# Altium footprint library DIP Led.PcbLib: 26 footprints (part 2 of 2)
Each footprint in its own frame and in the unit in brackets; x right, y up, seen from the top. Pads: shape width x height; smd on the part's side, far side on the other; paste and mask are expansions set on the pad; w line width, h text height; cw(c..) or ccw(c..) is an arc to the next point about the centre after c.
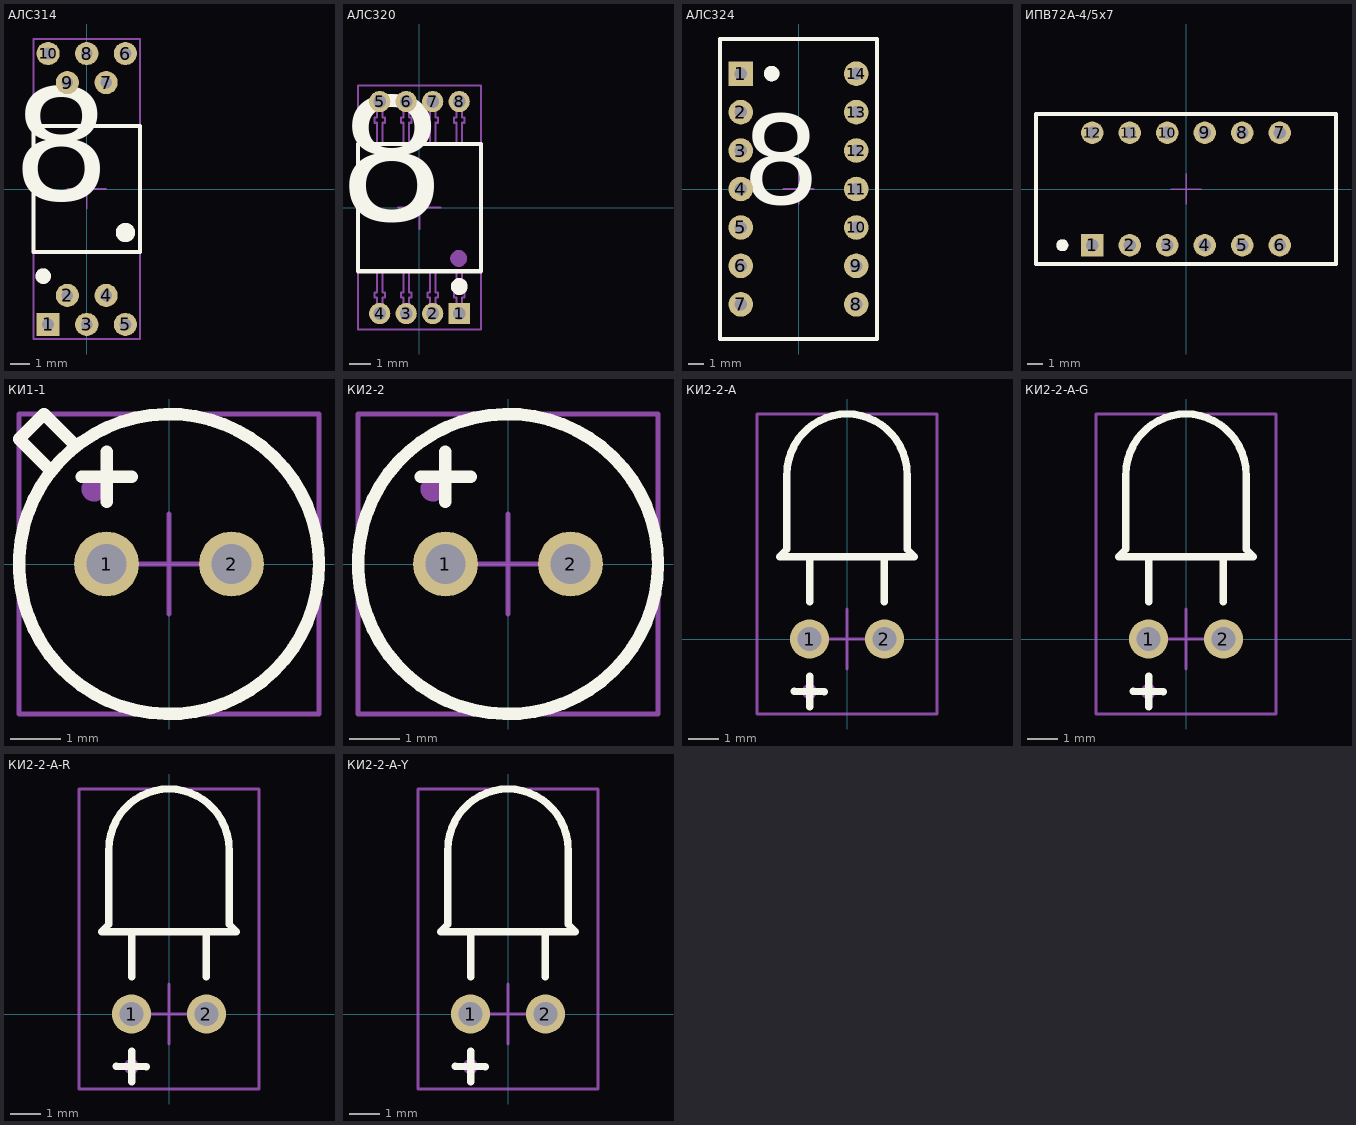
[diagram p1: the footprints below, top view; thin cyan lines are the x and y axes]

## АЛС314 [mm]
height 2
pads (10):
  rect 1.2x1.2 hole 0.6: 1(-2,-7)
  round 1.2 hole 0.6: 2(-1,-5.5) 3(0,-7) 4(1,-5.5) 5(2,-7) 6(2,7) 7(1,5.5) 8(0,7) 9(-1,5.5) 10(-2,7)
Top Overlay:
  circle w0.5: c2,-2.25 r0.25
  circle w0.4: c-2.25,-4.5 r0.2
  lines w0.2: -2.75,-3.25 -2.75,3.25 2.75,3.25 2.75,-3.25 -2.75,-3.25
  text "8" at 1.25,-2.5 h10
Mechanical 13:
  circle w0.4: c-2.25,-4.5 r0.2
  lines w0.1: -2.75,-3.25 2.75,-3.25 2.75,3.25 -2.75,3.25 -2.75,-3.25
Mechanical 15:
  lines w0.1: -1,0 1,0 ; 0.001,-1 0.001,1 ; -2.75,-7.75 2.75,-7.75 2.75,7.75 -2.75,7.75 -2.75,-7.75
3D body: height 2, standoff 0, extent -2.75,-3.25 2.75,3.25

## АЛС320 [mm]
height 2.8
pads (8):
  rect 1x1 hole 0.6: 1(1.875,-5)
  round 1 hole 0.6: 2(0.625,-5) 3(-0.625,-5) 4(-1.875,-5) 5(-1.875,5) 6(-0.625,5) 7(0.625,5) 8(1.875,5)
Top Overlay:
  circle w0.4: c1.875,-3.725 r0.2
  lines w0.2: -2.9,-3 2.9,-3 2.9,3 -2.9,3 -2.9,-3
  text "8" at 1.25,-2.5 h10
Mechanical 13:
  circle w0.4: c1.85,-2.4 r0.2
  lines w0.1: -2,-3 -2,-4 -2.125,-4 -2.125,-4.25 -2,-4.25 -2,-5 -1.75,-5 -1.75,-4.25 -1.625,-4.25 -1.625,-4 -1.75,-4 -1.75,-3 ; -2,3 -2,4 -2.125,4 -2.125,4.25 -2,4.25 -2,5 -1.75,5 -1.75,4.25 -1.625,4.25 -1.625,4 -1.75,4 -1.75,3 ; -0.75,-3 -0.75,-4 -0.875,-4 -0.875,-4.25 -0.75,-4.25 -0.75,-5 -0.5,-5 -0.5,-4.25 -0.375,-4.25 -0.375,-4 -0.5,-4 -0.5,-3 ; -0.75,3 -0.75,4 -0.875,4 -0.875,4.25 -0.75,4.25 -0.75,5 -0.5,5 -0.5,4.25 -0.375,4.25 -0.375,4 -0.5,4 -0.5,3 ; 0.5,-3 0.5,-4 0.375,-4 0.375,-4.25 0.5,-4.25 0.5,-5 0.75,-5 0.75,-4.25 0.875,-4.25 0.875,-4 0.75,-4 0.75,-3 ; 0.5,3 0.5,4 0.375,4 0.375,4.25 0.5,4.25 0.5,5 0.75,5 0.75,4.25 0.875,4.25 0.875,4 0.75,4 0.75,3 ; 1.75,-3 1.75,-4 1.625,-4 1.625,-4.25 1.75,-4.25 1.75,-5 2,-5 2,-4.25 2.125,-4.25 2.125,-4 2,-4 2,-3 ; 1.75,3 1.75,4 1.625,4 1.625,4.25 1.75,4.25 1.75,5 2,5 2,4.25 2.125,4.25 2.125,4 2,4 2,3 ; -2.9,-3 -2.9,3 2.9,3 2.9,-3 -2.9,-3
  text "Check!" at -4,-0.5 h1.52
Mechanical 15:
  lines w0.1: -1,0 1,0 ; 0.001,-1 0.001,1 ; -2.9,-5.75 -2.9,5.75 2.9,5.75 2.9,-5.75 -2.9,-5.75
3D body: height 2.8, standoff 0, extent -2.9,-3 2.9,3

## АЛС324 [mm]
height 8
pads (14):
  rect 1.6x1.6 hole 0.8: 1(-3.75,7.5)
  round 1.6 hole 0.8: 2(-3.75,5) 3(-3.75,2.5) 4(-3.75,0) 5(-3.75,-2.5) 6(-3.75,-5) 7(-3.75,-7.5) 8(3.75,-7.5) 9(3.75,-5) 10(3.75,-2.5) 11(3.75,0) 12(3.75,2.5) 13(3.75,5) 14(3.75,7.5)
Top Overlay:
  circle w0.5: c-1.75,7.5 r0.25
  lines w0.25: -5.1,-9.75 -5.1,9.75 5.1,9.75 5.1,-9.75 -5.1,-9.75
  text "8" at 1.4,-2.9 h10
Mechanical 13:
  circle w0.5: c-1.75,7.5 r0.25
  lines w0.1: -5.1,-9.75 -5.1,9.75 5.1,9.75 5.1,-9.75 -5.1,-9.75
Mechanical 15:
  lines w0.1: -1,-0.001 1,-0.001 ; 0,-1 0,1 ; -5.1,-9.75 -5.1,9.75 5.1,9.75 5.1,-9.75 -5.1,-9.75
3D body "User Library-King Bright SA04-11.step": height 6, standoff -3.08, extent -4.9,-9.375 4.9,9.375

## ИПВ72А-4/5х7 [mm] "Body 20mm x 10mm, HP HDSP-2010"
height 7
pads (12):
  rect 1.5x1.5 hole 0.8: 1(-6.25,-3.75)
  round 1.5 hole 0.8: 2(-3.75,-3.75) 3(-1.25,-3.75) 4(1.25,-3.75) 5(3.75,-3.75) 6(6.25,-3.75) 7(6.25,3.75) 8(3.75,3.75) 9(1.25,3.75) 10(-1.25,3.75) 11(-3.75,3.75) 12(-6.25,3.75)
Top Overlay:
  circle w0.4: c-8.25,-3.75 r0.2
  lines w0.25: -10,-5 10,-5 10,5 -10,5 -10,-5
Mechanical 13:
  circle w0.4: c-8.25,-3.75 r0.2
  lines w0.1: -10,-5 -10,5 10,5 10,-5 -10,-5
Mechanical 15:
  lines w0.1: -1,0 1,0 ; 0.001,-1 0.001,1 ; -10,-5 10,-5 10,5 -10,5 -10,-5

## КИ1-1 [mm] "Корпус КИ1-1 по ГОСТ 24354-80 (TO-18)"
pads (2):
  round 1.3 hole 0.8: 1(-1.25,0) 2(1.25,0)
Top Overlay:
  circle w0.25: c0,0 r3
  lines w0.25: -2.4,1.9 -3,2.5 -2.5,3 -1.9,2.4 ; -1.75,1.75 -0.75,1.75 ; -1.25,1.25 -1.25,2.25
Mechanical 13:
  circle w0.1: c0,0 r3
  circle w0.25: c-1.5,1.5 r0.125
Mechanical 15:
  lines w0.1: -1,0 1,0 ; 0,-1 0,1 ; -3,-3 -3,3 3,3 3,-3 -3,-3
3D body "User Library-Hamamatsu S1336 TO-18.step": height 7.6, standoff -1, extent -2.7,-2.7 2.7,2.7

## КИ2-2 [mm]
pads (2):
  round 1.3 hole 0.8: 1(-1.25,0) 2(1.25,0)
Top Overlay:
  circle w0.25: c0,0 r3
  lines w0.25: -1.75,1.75 -0.75,1.75 ; -1.25,1.25 -1.25,2.25
Mechanical 13:
  circle w0.1: c0,0 r3
  circle w0.25: c-1.5,1.5 r0.125
Mechanical 15:
  lines w0.1: -1,0 1,0 ; 0,-1 0,1 ; -3,-3 3,-3 3,3 -3,3 -3,-3
3D body "User Library-Led.step": height 11, standoff -1, extent -3.1,-3 2.9,3

## КИ2-2-A [mm]
pads (2):
  round 1.3 hole 0.8: 1(-1.25,0) 2(1.25,0)
Top Overlay:
  lines w0.25: -1.75,-1.75 -0.75,-1.75 ; -1.25,-2.25 -1.25,-1.25 ; -1.25,1.25 -1.25,2.75 ; 1.25,1.25 1.25,2.75 ; -2.25,2.75 -2,3 -2,5.5 cw(c0,5.5) 2,5.5 2,3 2.25,2.75 0.25,2.75 -2.25,2.75
Mechanical 13:
  circle w0.25: c-1.25,-1.75 r0.125
  lines w0.1: -1.25,1.25 -1.25,2.75 ; 1.25,1.25 1.25,2.75 ; -2.25,2.75 0.25,2.75 2.25,2.75 2,3 2,5.5 ccw(c0,5.5) -2,5.5 -2,3 -2.25,2.75
Mechanical 15:
  lines w0.1: -1,0 1,0 ; 0,-1 0,1 ; -3,-2.5 3,-2.5 3,7.5 -3,7.5 -3,-2.5

## КИ2-2-A-G [mm]
pads (2):
  round 1.3 hole 0.8: 1(-1.25,0) 2(1.25,0)
Top Overlay:
  lines w0.25: -1.75,-1.75 -0.75,-1.75 ; -1.25,-2.25 -1.25,-1.25 ; -1.25,1.25 -1.25,2.75 ; 1.25,1.25 1.25,2.75 ; -2.25,2.75 -2,3 -2,5.5 cw(c0,5.5) 2,5.5 2,3 2.25,2.75 0.25,2.75 -2.25,2.75
Mechanical 13:
  circle w0.25: c-1.25,-1.75 r0.125
  lines w0.1: -1.25,1.25 -1.25,2.75 ; 1.25,1.25 1.25,2.75 ; -2.25,2.75 0.25,2.75 2.25,2.75 2,3 2,5.5 ccw(c0,5.5) -2,5.5 -2,3 -2.25,2.75
Mechanical 15:
  lines w0.1: -1,0 1,0 ; 0,-1 0,1 ; -3,-2.5 3,-2.5 3,7.5 -3,7.5 -3,-2.5
3D body "User Library-LG2040_right angle.step": height 6.99, standoff -2, extent -1.984,-0.25 1.52,10.2

## КИ2-2-A-R [mm]
pads (2):
  round 1.3 hole 0.8: 1(-1.25,0) 2(1.25,0)
Top Overlay:
  lines w0.25: -1.75,-1.75 -0.75,-1.75 ; -1.25,-2.25 -1.25,-1.25 ; -1.25,1.25 -1.25,2.75 ; 1.25,1.25 1.25,2.75 ; -2.25,2.75 -2,3 -2,5.5 cw(c0,5.5) 2,5.5 2,3 2.25,2.75 0.25,2.75 -2.25,2.75
Mechanical 13:
  circle w0.25: c-1.25,-1.75 r0.125
  lines w0.1: -1.25,1.25 -1.25,2.75 ; 1.25,1.25 1.25,2.75 ; -2.25,2.75 0.25,2.75 2.25,2.75 2,3 2,5.5 ccw(c0,5.5) -2,5.5 -2,3 -2.25,2.75
Mechanical 15:
  lines w0.1: -1,0 1,0 ; 0,-1 0,1 ; -3,-2.5 3,-2.5 3,7.5 -3,7.5 -3,-2.5
3D body "User Library-LH2040_right angle.step": height 6.99, standoff -2, extent -1.984,-0.25 1.52,10.2

## КИ2-2-A-Y [mm]
pads (2):
  round 1.3 hole 0.8: 1(-1.25,0) 2(1.25,0)
Top Overlay:
  lines w0.25: -1.75,-1.75 -0.75,-1.75 ; -1.25,-2.25 -1.25,-1.25 ; -1.25,1.25 -1.25,2.75 ; 1.25,1.25 1.25,2.75 ; -2.25,2.75 -2,3 -2,5.5 cw(c0,5.5) 2,5.5 2,3 2.25,2.75 0.25,2.75 -2.25,2.75
Mechanical 13:
  circle w0.25: c-1.25,-1.75 r0.125
  lines w0.1: -1.25,1.25 -1.25,2.75 ; 1.25,1.25 1.25,2.75 ; -2.25,2.75 0.25,2.75 2.25,2.75 2,3 2,5.5 ccw(c0,5.5) -2,5.5 -2,3 -2.25,2.75
Mechanical 15:
  lines w0.1: -1,0 1,0 ; 0,-1 0,1 ; -3,-2.5 3,-2.5 3,7.5 -3,7.5 -3,-2.5
3D body "User Library-LY2040_right angle.step": height 6.99, standoff -2, extent -1.984,-0.25 1.52,10.2